# Altium footprint library Circuit_protection.PcbLib: 31 footprints (part 2 of 2)
Each footprint in its own frame and in the unit in brackets; x right, y up, seen from the top. Pads: shape width x height; smd on the part's side, far side on the other; paste and mask are expansions set on the pad; w line width, h text height; cw(c..) or ccw(c..) is an arc to the next point about the centre after c.
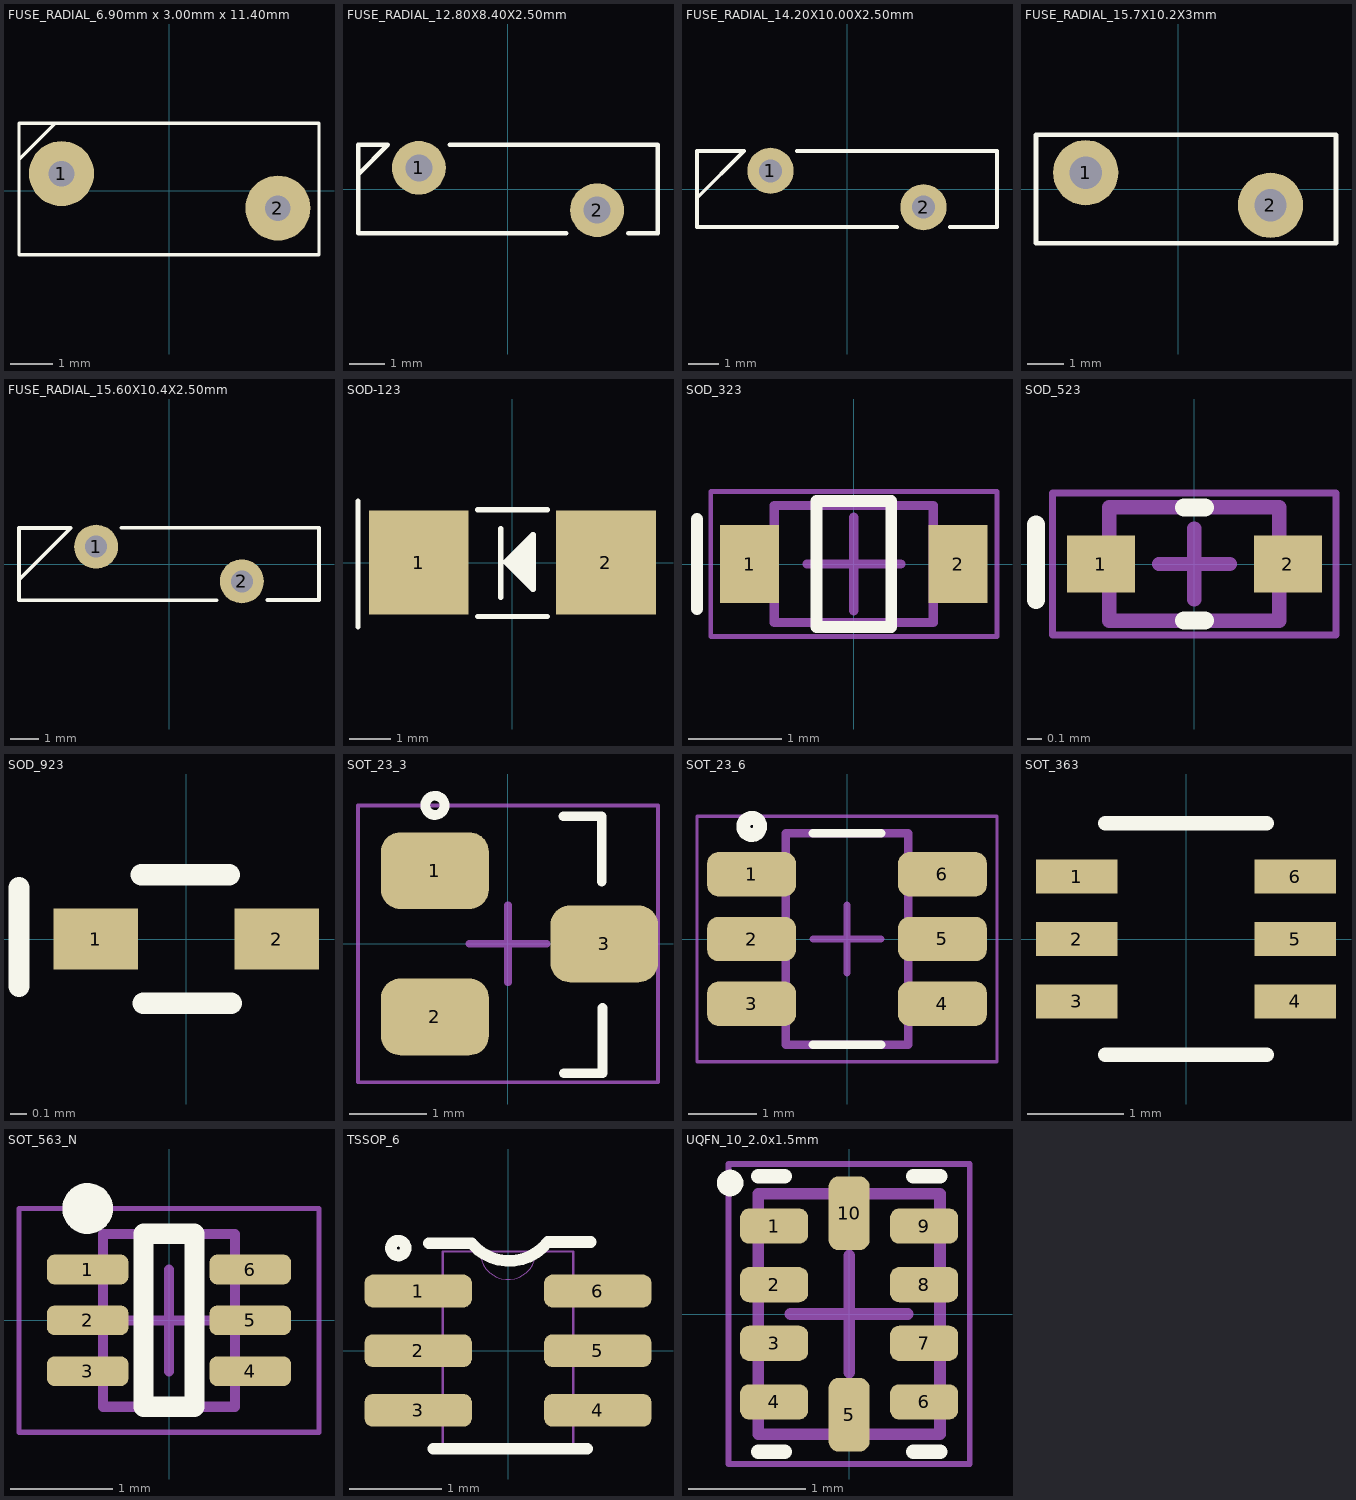
[diagram p1: the footprints below, top view; thin cyan lines are the x and y axes]

## FUSE_RADIAL_6.90mm x 3.00mm x 11.40mm [mil] "/20230605/ J.Jaramillo"
pads (2):
  round 60 hole 23.62: 1(-99.41,15.75) 2(100,-16)
Top Overlay:
  lines w3: -138.5,28.95 -105.28,62.17 ; -105.28,62.17 137.55,62.17 137.89,61.82 137.89,-59 -138.56,-59 -138.56,62.17 -105.28,62.17
3D body "0ZRG0075FF1E.stp": height 452.76, standoff -196.85, extent -135.82,-59.11 135.83,59

## FUSE_RADIAL_12.80X8.40X2.50mm [mil] "/ 20190926 / C-D Viveros"
pads (2):
  round 60 hole 30: 1(-99.41,23.62) 2(99.41,-23.62)
Top Overlay:
  lines w5: -167.32,49.22 -134,49.22 -134.06,49.22 -167.27,16 ; -167.27,49.22 -167.27,-49.25 64.83,-49.25 ; -64.82,49.26 167.29,49.26 167.29,-49.17 ; 134.01,-49.21 167.33,-49.21
3D body "RGEF400.stp": height 472.44, standoff -196.85, extent -167.32,-49.21 167.33,49.22

## FUSE_RADIAL_14.20X10.00X2.50mm [mil] "/ 20191021 / C-D Viveros"
pads (2):
  round 60 hole 30: 1(-99.41,23.62) 2(99.41,-23.62)
Top Overlay:
  lines w5: -194.58,-11.3 -134.06,49.22 -134,49.22 -194.88,49.22 -194.88,-49.21 64.83,-49.25 ; -64.82,49.26 194.88,49.21 194.88,-49.21 134.01,-49.21
3D body: height 559.06, standoff 0, extent -194.88,-49.21 194.88,49.22
3D body "RGEF400.stp": height 472.44, standoff -196.85, extent -167.32,-49.21 167.33,49.22

## FUSE_RADIAL_15.7X10.2X3mm [mm] "/ 20210519/ C-A.Serna.A"
pads (2):
  round 1.8 hole 0.889: 1(-2.55,0.45) 2(2.55,-0.45)
Top Overlay:
  lines w0.127: -3.922,-1.5 4.359,-1.5 4.359,1.5 -3.922,1.5 -3.922,-1.5
3D body: height 15.7, standoff 0, extent -3.922,-1.5 4.359,1.5

## FUSE_RADIAL_15.60X10.4X2.50mm [mil] "/ 20191022 / C-D Viveros"
pads (2):
  round 60 hole 30: 1(-99.41,23.62) 2(99.41,-23.62)
Top Overlay:
  lines w5: -204.14,-20.86 -134.06,49.22 -134,49.22 -204.72,49.22 -204.72,-49.21 64.83,-49.25 ; -64.82,49.26 204.72,49.21 204.72,-49.21 134.01,-49.21
3D body: height 614.17, standoff 0, extent -204.73,-49.21 204.72,49.21
3D body "RGEF400.stp": height 472.44, standoff -196.85, extent -167.32,-49.21 167.33,49.22

## SOD-123 [mm] "/ 20190221 / C-A.Serna.A"
pads (2):
  rect 2.4x2.5 smd: 1(-2.25,0) 2(2.25,0)
Top Overlay:
  region: 0.51,0.677 0.492,0.677 -0.169,0.016 0.492,-0.644
  lines w0.127: -3.708,-1.541 -3.708,1.473 ; -0.838,-1.295 0.838,-1.295 ; -0.838,1.27 0.838,1.27 ; -0.279,-0.838 -0.279,0.813 ; 0.51,0.016 -0.169,0.016 ; -0.169,0.016 0.492,-0.644 0.51,-0.644 0.51,0.677 0.492,0.677 -0.169,0.016
3D body "SOD123.step": height 1.28, standoff 0.01, extent -1.926,-0.851 1.774,0.749

## SOD_323 [mm] "SC-76/ 20190515/ V-A.Patino"
pads (2):
  rect 0.63x0.83 smd: 1(-1.115,0) 2(1.115,0)
Top Overlay:
  lines w0.127: -1.676,-0.483 -1.676,0.483 ; -0.4,-0.675 0.4,-0.675 0.4,0.675 -0.4,0.675 -0.4,-0.675
Mechanical 1:
  lines w0.1: -0.85,-0.625 0.85,-0.625 0.85,0.625 -0.85,0.625 -0.85,-0.625
Mechanical 15:
  lines w0.05: -1.53,-0.775 1.53,-0.775 1.53,0.775 -1.53,0.775 -1.53,-0.775
  lines w0.1: -0.5,0 0.5,0 ; 0,-0.5 0,0.5
3D body: height 1.06, standoff 0, extent -0.85,-0.625 0.85,0.625

## SOD_523 [mm] "SC-79 / 20190515 / V-A.Patino"
pads (2):
  rect 0.48x0.4 smd: 1(-0.66,0) 2(0.66,0)
Top Overlay:
  lines w0.127: -1.118,-0.254 -1.118,0.279 ; -0.074,-0.4 0.074,-0.4 ; -0.074,0.4 0.074,0.4
Mechanical 1:
  lines w0.1: -0.6,-0.4 0.6,-0.4 0.6,0.4 -0.6,0.4 -0.6,-0.4
Mechanical 15:
  lines w0.05: -1,-0.5 1,-0.5 1,0.5 -1,0.5 -1,-0.5
  lines w0.1: -0.25,0 0.25,0 ; 0,-0.25 0,0.25
3D body: height 0.7, standoff 0, extent -0.6,-0.4 0.6,0.4

## SOD_923 [mm] "/ 20190221 / C-A.Serna.A"
pads (2):
  rect 0.5x0.36 smd: 1(-0.536,0) 2(0.537,0)
Top Overlay:
  lines w0.127: -0.991,-0.279 -0.991,0.305 ; -0.267,0.381 0.254,0.381 ; -0.254,-0.381 0.267,-0.381
3D body "SOD_923_User Library-DIODE_SOD-923.step": height 0.44, standoff 0.01, extent -0.528,-0.325 0.522,0.325

## SOT_23_3 [mm] "TO-236-3, SC-59/ 20201021 / C-A.Serna.A"
pads (3):
  rrect50% 1.4x1 smd: 1(-0.95,0.95) 2(-0.95,-0.95) 3(1.25,0)
Top Overlay:
  circle w0.127: c-0.95,1.8 r0.125
  lines w0.127: 0.717,1.657 1.217,1.657 1.217,0.807 ; 0.728,-1.683 1.228,-1.683 1.228,-0.833
Mechanical 15:
  lines w0.05: -1.95,-1.8 -1.95,1.8 1.95,1.8 1.95,-1.8 -1.95,-1.8
  lines w0.1: -0.5,0 0.5,0 ; 0,-0.5 0,0.5
3D body "SOT_DA6V1L_STM.step": height 1.4, standoff 0, extent -1.349,-1.534 1.649,1.514

## SOT_23_6 [mm] "/ 20190225 / C-A.Serna.A"
height 1.45
pads (6):
  rrect50% 1.3x0.65 smd: 1(-1.4,0.95) 2(-1.4,0) 3(-1.4,-0.95) 4(1.4,-0.95) 5(1.4,0) 6(1.4,0.95)
Top Overlay:
  circle w0.203: c-1.397,1.651 r0.125
  lines w0.127: -0.5,-1.55 0.5,-1.55 ; -0.5,1.55 0.5,1.55
Mechanical 1:
  lines w0.127: -0.9,-1.55 0.9,-1.55 0.9,1.55 -0.9,1.55 -0.9,-1.55
Mechanical 15:
  lines w0.05: -2.2,-1.8 -2.2,1.8 2.2,1.8 2.2,-1.8 -2.2,-1.8
  lines w0.1: -0.5,0 0.5,0 ; 0,-0.5 0,0.5
3D body "SOT23-6-2.step": height 1.45, standoff 0, extent -1.501,-1.45 1.299,1.45

## SOT_363 [mil] "6_TSSOP, SC-88 / E.Naranjo / 20220214"
pads (6):
  rect 33.5x14 smd: 1(-44.75,25.59) 2(-44.75,0) 3(-44.75,-25.59) 4(44.75,-25.59) 5(44.75,0) 6(44.75,25.59)
Top Overlay:
  lines w6: -33,-47.5 33,-47.5 ; -33,47.5 33,47.5
3D body "DCK0006A.stp": height 39.37, standoff 0, extent -41.33,-39.36 41.34,39.38

## SOT_563_N [mm] "SOT-666 / 20200724 / N-A.Potosi"
height 0.6
pads (6):
  rrect50% 0.8x0.292 smd: 1(-0.8,0.5) 2(-0.8,0) 3(-0.8,-0.5) 4(0.8,-0.5) 5(0.8,0) 6(0.8,0.5)
Top Overlay:
  circle w0.25: c-0.8,1.1 r0.125
  lines w0.2: -0.25,-0.85 0.25,-0.85 0.25,0.85 -0.25,0.85 -0.25,-0.85
Mechanical 1:
  lines w0.1: -0.65,-0.85 -0.65,0.85 0.65,0.85 0.65,-0.85 -0.65,-0.85
Mechanical 15:
  lines w0.05: -1.475,-1.1 1.475,-1.1 1.475,1.1 -1.475,1.1 -1.475,-1.1
  lines w0.1: -0.5,0 0.5,0 ; 0,-0.5 0,0.5
3D body: height 0.6, standoff 0, extent -0.65,-0.85 0.65,0.85

## TSSOP_6 [mil] "SC-88, SOT-363, SC-70-6 / 20190221 / C-A.Serna.A"
pads (6):
  rrect50% 46x14 smd: 1(-38.5,25.59) 2(-38.5,0) 3(-38.5,-25.59) 4(38.5,-25.59) 5(38.5,0) 6(38.5,25.59)
Top Overlay:
  circle w5: c-47,44 r3.16
  lines w5: -34,46 -15.55,46 ccw(c0.49,59.25) 17,46.6 35.45,46.6 ; -32,-42 34,-42
Mechanical 2 (Mech13):
  lines w0: -12,42.5 ccw(c0,42.5) 12,42.5
  lines w1: -47.5,-31.59 -28,-31.59 -28,-19.59 -47.5,-19.59 -47.5,-31.59 ; -47.5,-6 -28,-6 -28,6 -47.5,6 -47.5,-6 ; -47.5,19.59 -28,19.59 -28,31.59 -47.5,31.59 -47.5,19.59 ; -28,-42.5 -28,42.5 28,42.5 28,-42.5 -28,-42.5 ; 28,-31.59 47.5,-31.59 47.5,-19.59 28,-19.59 28,-31.59 ; 28,-6 47.5,-6 47.5,6 28,6 28,-6 ; 28,19.59 47.5,19.59 47.5,31.59 28,31.59 28,19.59
3D body "DCK6.step": height 43.11, standoff 0, extent -45.48,-42.52 49.49,42.52

## UQFN_10_2.0x1.5mm [mm] "/ 20190221 / C-A.Serna.A"
height 0.6
pads (10):
  rrect50% 0.58x0.3 smd: 1(-0.64,0.75) 2(-0.64,0.25) 3(-0.64,-0.25) 4(-0.64,-0.75) 6(0.64,-0.75) 7(0.64,-0.25) 8(0.64,0.25) 9(0.64,0.75)
  rrect50% 0.35x0.63 smd: 5(0,-0.86) 10(0,0.86)
Top Overlay:
  circle w0.127: c-1.016,1.118 r0.05
  lines w0.127: -0.775,-1.175 -0.55,-1.175 ; -0.775,1.175 -0.55,1.175 ; 0.55,-1.175 0.775,-1.175 ; 0.55,1.175 0.775,1.175
Mechanical 1:
  lines w0.1: -0.775,-1.025 -0.775,1.025 0.775,1.025 0.775,-1.025 -0.775,-1.025
Mechanical 15:
  lines w0.05: -1.03,-1.28 -1.03,1.28 1.03,1.28 1.03,-1.28 -1.03,-1.28
  lines w0.1: -0.5,0 0.5,0 ; 0,-0.5 0,0.5
3D body: height 0.6, standoff 0, extent -0.775,-1.025 0.775,1.025